# Altium footprint library Components - 14.02.26 - 11.43.PcbLib: 3 footprints
Each footprint in its own frame and in the unit in brackets; x right, y up, seen from the top. Pads: shape width x height; smd on the part's side, far side on the other; paste and mask are expansions set on the pad; w line width, h text height; cw(c..) or ccw(c..) is an arc to the next point about the centre after c.
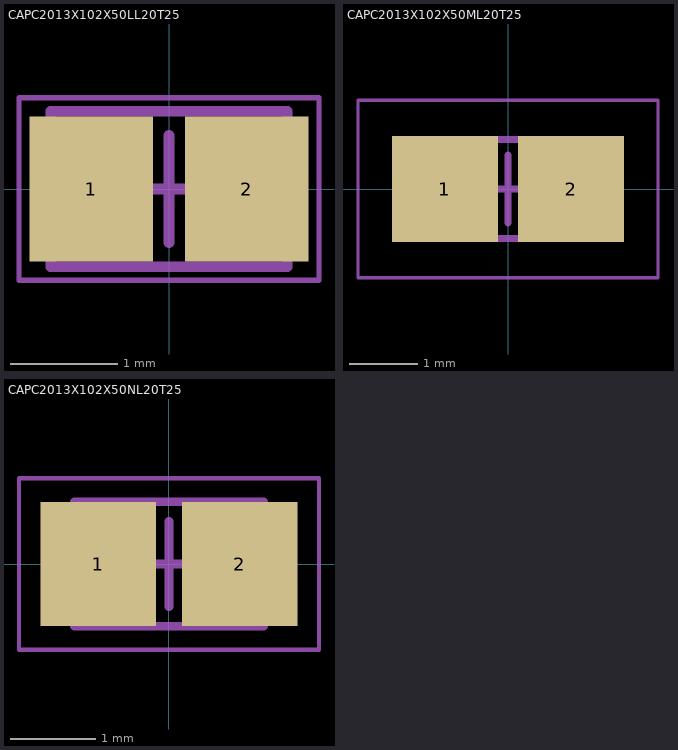
[diagram p0: the footprints below, top view; thin cyan lines are the x and y axes]

## CAPC2013X102X50LL20T25 [mm] "Chip Capacitor, 2-Leads, Body 2.01x1.25mm, IPC High Density"
height 1.02
pads (2):
  rect 1.15x1.35 smd: 1(-0.725,0) 2(0.725,0)
Mechanical 13:
  lines w0.1: -1.105,-0.725 -1.105,0.725 1.105,0.725 1.105,-0.725 -1.105,-0.725
Mechanical 15:
  lines w0.05: -1.4,-0.85 -1.4,0.85 1.4,0.85 1.4,-0.85 -1.4,-0.85
  lines w0.1: -0.5,0 0.5,0 ; 0,-0.5 0,0.5
3D body: height 1.02, standoff 0, extent -0.605,-0.725 0.605,0.725
3D body: height 1.02, standoff 0, extent -1.105,-0.725 -0.605,0.725
3D body: height 1.02, standoff 0, extent 0.605,-0.725 1.105,0.725

## CAPC2013X102X50ML20T25 [mm] "Chip Capacitor, 2-Leads, Body 2.01x1.25mm, IPC Low Density"
height 1.02
pads (2):
  rect 1.55x1.55 smd: 1(-0.925,0) 2(0.925,0)
Mechanical 13:
  lines w0.1: -1.105,-0.725 -1.105,0.725 1.105,0.725 1.105,-0.725 -1.105,-0.725
Mechanical 15:
  lines w0.05: -2.2,-1.3 -2.2,1.3 2.2,1.3 2.2,-1.3 -2.2,-1.3
  lines w0.1: -0.5,0 0.5,0 ; 0,-0.5 0,0.5
3D body: height 1.02, standoff 0, extent -0.605,-0.725 0.605,0.725
3D body: height 1.02, standoff 0, extent -1.105,-0.725 -0.605,0.725
3D body: height 1.02, standoff 0, extent 0.605,-0.725 1.105,0.725

## CAPC2013X102X50NL20T25 [mm] "Chip Capacitor, 2-Leads, Body 2.01x1.25mm, IPC Medium Density"
height 1.02
pads (2):
  rect 1.35x1.45 smd: 1(-0.825,0) 2(0.825,0)
Mechanical 13:
  lines w0.1: -1.105,-0.725 -1.105,0.725 1.105,0.725 1.105,-0.725 -1.105,-0.725
Mechanical 15:
  lines w0.05: -1.75,-1 -1.75,1 1.75,1 1.75,-1 -1.75,-1
  lines w0.1: -0.5,0 0.5,0 ; 0,-0.5 0,0.5
3D body: height 1.02, standoff 0, extent -0.605,-0.725 0.605,0.725
3D body: height 1.02, standoff 0, extent -1.105,-0.725 -0.605,0.725
3D body: height 1.02, standoff 0, extent 0.605,-0.725 1.105,0.725